# EAGLE library part DS3231M (library noah)
RTC (real time clock), I2C communication
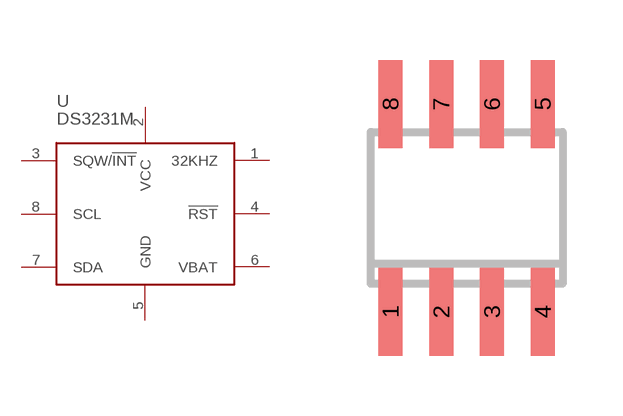
[diagram p11: symbol with the pads of SO08; footprint SO08]

Designator prefix -

## DS3231M  [SO08]
1  32KHZ
2  VCC
3  SQW/!INT
4  !RST
5  GND
6  VBAT
7  SDA
8  SCL

## Footprint SO08 (pad centres in mm)
Small Outline Package 8 NS Package M08A
smd 0.6 x 2.2: 1 -1.905,-2.6; 2 -0.635,-2.6; 3 0.635,-2.6; 4 1.905,-2.6; 5 1.905,2.6; 6 0.635,2.6; 7 -0.635,2.6; 8 -1.905,2.6